# Altium footprint library HCS512.PcbLib: 2 footprints
Each footprint in its own frame and in the unit in brackets; x right, y up, seen from the top. Pads: shape width x height; smd on the part's side, far side on the other; paste and mask are expansions set on the pad; w line width, h text height; cw(c..) or ccw(c..) is an arc to the next point about the centre after c.
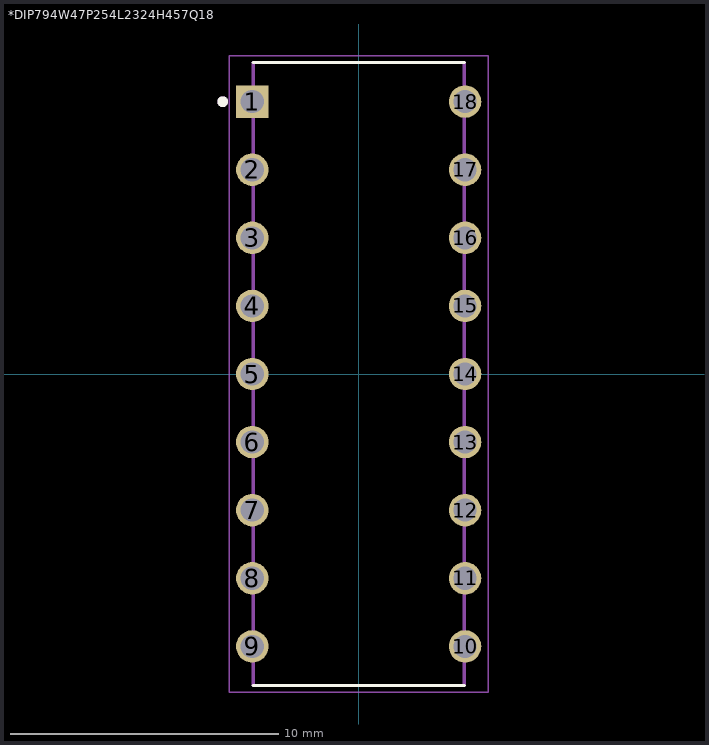
[diagram p0: the footprints below, top view; thin cyan lines are the x and y axes]

## *DIP794W47P254L2324H457Q18 [mm]
pads (18):
  rect 1.21x1.21 hole 0.86: 1(-3.97,10.16)
  round 1.21 hole 0.86: 2(-3.97,7.62) 3(-3.97,5.08) 4(-3.97,2.54) 5(-3.97,0) 6(-3.97,-2.54) 7(-3.97,-5.08) 8(-3.97,-7.62) 9(-3.97,-10.16) 10(3.97,-10.16) 11(3.97,-7.62) 12(3.97,-5.08) 13(3.97,-2.54) 14(3.97,0) 15(3.97,2.54) 16(3.97,5.08) 17(3.97,7.62) 18(3.97,10.16)
Top Overlay:
  circle w0.2: c-5.075,10.16 r0.1
  lines w0.127: -3.935,-11.62 3.935,-11.62 ; -3.935,11.62 3.935,11.62
Mechanical 4:
  circle w0.2: c-5.075,10.16 r0.1
  circle w0.2: c-5.075,10.16 r0.1
  lines w0.127: -3.935,-11.62 -3.935,11.62 ; -3.935,-11.62 3.935,-11.62 ; -3.935,-11.62 -3.935,11.62 ; -3.935,-11.62 3.935,-11.62 ; -3.935,11.62 3.935,11.62 ; -3.935,11.62 3.935,11.62 ; 3.935,-11.62 3.935,11.62 ; 3.935,-11.62 3.935,11.62
Mechanical 16:
  lines w0.05: -4.825,-11.87 -4.825,11.87 4.825,11.87 4.825,-11.87 -4.825,-11.87

## PCBComponent_1 [mil]